# Altium footprint library 20682-020E-02.PcbLib: 1 footprints
Each footprint in its own frame and in the unit in brackets; x right, y up, seen from the top. Pads: shape width x height; smd on the part's side, far side on the other; paste and mask are expansions set on the pad; w line width, h text height; cw(c..) or ccw(c..) is an arc to the next point about the centre after c.
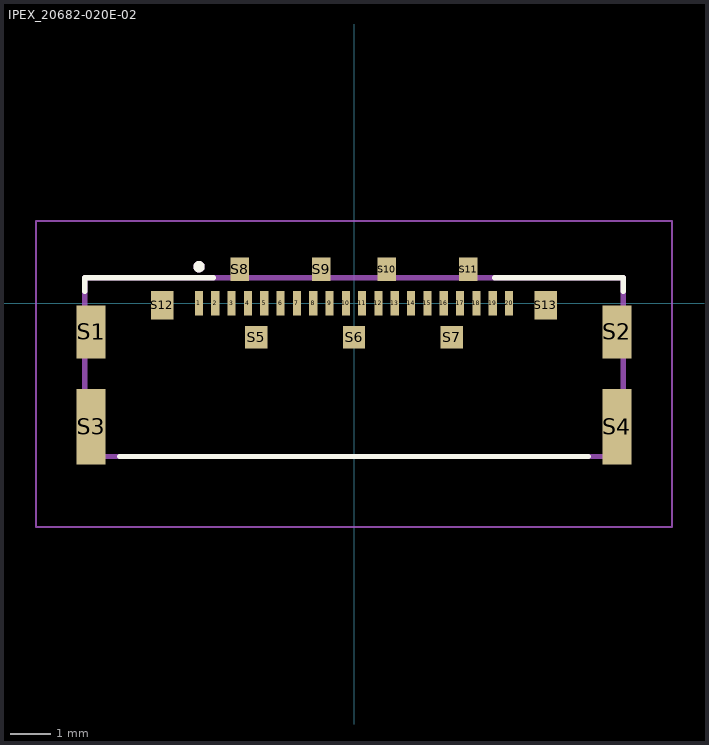
[diagram p0: the footprint, top view; thin cyan lines are the x and y axes]

## IPEX_20682-020E-02 [mm]
pads (33):
  rect 0.2x0.6 smd: 1(-3.8,0) 2(-3.4,0) 3(-3,0) 4(-2.6,0) 5(-2.2,0) 6(-1.8,0) 7(-1.4,0) 8(-1,0) 9(-0.6,0) 10(-0.2,0) 11(0.2,0) 12(0.6,0) 13(1,0) 14(1.4,0) 15(1.8,0) 16(2.2,0) 17(2.6,0) 18(3,0) 19(3.4,0) 20(3.8,0)
  rect 0.71x1.3 smd: S1(-6.445,-0.7) S2(6.445,-0.7)
  rect 0.71x1.85 smd: S3(-6.445,-3.025) S4(6.445,-3.025)
  rect 0.55x0.55 smd: S5(-2.4,-0.825) S6(0,-0.825) S7(2.4,-0.825)
  rect 0.45x0.58 smd: S8(-2.8,0.84) S9(-0.8,0.84) S10(0.8,0.84) S11(2.8,0.84)
  rect 0.55x0.7 smd: S12(-4.7,-0.05) S13(4.7,-0.05)
Top Overlay:
  circle w0.14: c-3.8,0.9 r0.07
  lines w0.127: -6.6,0.3 -6.6,0.63 -3.45,0.63 ; -5.75,-3.75 5.75,-3.75 ; 3.45,0.63 6.6,0.63 6.6,0.3
Mechanical 13:
  circle w0.14: c-3.8,0.9 r0.07
  lines w0.127: -6.6,-3.75 -6.6,0.63 6.6,0.63 6.6,-3.75 -6.6,-3.75
Mechanical 15:
  lines w0.05: -7.8,-5.48 -7.8,2.02 7.8,2.02 7.8,-5.48 -7.8,-5.48
3D body "step_temp.STEP": height 0.82, standoff 0, extent -6.6,-3.714 6.6,1.016